# EAGLE library part BCM856 (library GEN_WIP_MASTERLIB)
TRANS 2PNP 65V 0.1A
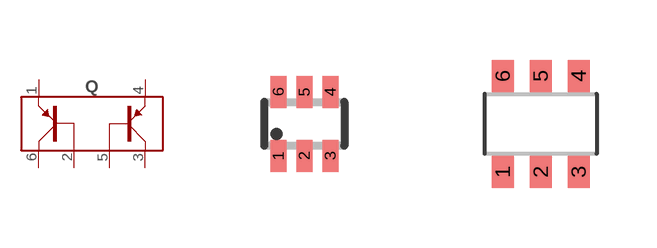
[diagram p0: symbol with the pads of SOT363; footprints SOT363, SOT457]

Designator prefix Q

## BCM856BS (DIGIKEY#: BCM856SH6327XTSA1TR-ND; MANF: Infineon Technologies; MANF#: BCM856SH6327XTSA1)  [SOT363]
1
2
3
4
5
6

## BCM856DS  [SOT457]
Pads as for SOT363

## Footprint SOT363 (pad centres in mm)
Small Outline Transistor; 6 leads Philips Semiconductors, SOT363.pdf
smd 0.4 x 0.8: 1 -0.65,-0.8; 2 0,-0.8; 3 0.65,-0.8; 4 0.65,0.8; 5 0,0.8; 6 -0.65,0.8

## Footprint SOT457 (pad centres in mm)
Small Outline Transistor; 6 leads SOT457 (SC-74) FOOTPRINT (REFLOW SOLDERING) Philips Semiconductors, sot457-(sc-74)-reflow-wave.pdf
smd 0.55 x 0.8: 1 -0.95,-1.2; 2 0,-1.2; 3 0.95,-1.2; 4 0.95,1.2; 5 0,1.2; 6 -0.95,1.2